# EAGLE library part HDSP-521E (library HDSP-521E)
AVAGO TECHNOLOGIES - HDSP-521E - LED DISPLAY, DUAL, 0.56", HE-RED Source: Datasheet <https://componentsearchengine.com/Datasheets/2/HDSP-521E.pdf>
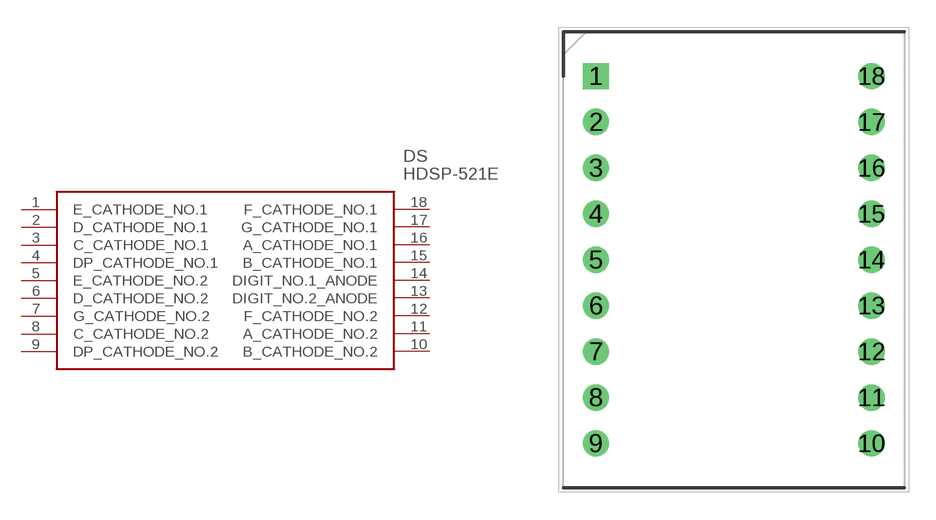
[diagram p0: symbol with the pads of DIPS1524W50P254L2500H825Q18N; footprint DIPS1524W50P254L2500H825Q18N]

Designator prefix DS

## HDSP-521E (Description: AVAGO TECHNOLOGIES - HDSP-521E - LED DISPLAY, DUAL, 0.56", HE-RED; Height: 8.25mm; Manufacturer_Name: Avago Technologies; Manufacturer_Part_Number: HDSP-521E; Mouser_Part_Number: 630-HDSP-521E; Mouser_Price-Stock: https://www.mouser.co.uk/ProductDetail/Broadcom-Avago/HDSP-521E?qs=pQfy5%252BKCabIW5pTqWifotQ%3D%3D)  [DIPS1524W50P254L2500H825Q18N]
1  E_CATHODE_NO.1
2  D_CATHODE_NO.1
3  C_CATHODE_NO.1
4  DP_CATHODE_NO.1
5  E_CATHODE_NO.2
6  D_CATHODE_NO.2
7  G_CATHODE_NO.2
8  C_CATHODE_NO.2
9  DP_CATHODE_NO.2
10  B_CATHODE_NO.2
11  A_CATHODE_NO.2
12  F_CATHODE_NO.2
13  DIGIT_NO.2_ANODE
14  DIGIT_NO.1_ANODE
15  B_CATHODE_NO.1
16  A_CATHODE_NO.1
17  G_CATHODE_NO.1
18  F_CATHODE_NO.1

## Footprint DIPS1524W50P254L2500H825Q18N (pad centres in mm)
HDSP-521E
drill 0.95 pad 1.425 square: 1 0,0
drill 0.95 pad 1.425: 2 0,-2.54; 3 0,-5.08; 4 0,-7.62; 5 0,-10.16; 6 0,-12.7; 7 0,-15.24; 8 0,-17.78; 9 0,-20.32; 10 15.24,-20.32; 11 15.24,-17.78; 12 15.24,-15.24; 13 15.24,-12.7; 14 15.24,-10.16; 15 15.24,-7.62; 16 15.24,-5.08; 17 15.24,-2.54; 18 15.24,0